# Altium schematic symbol library BQ21080.SchLib: 1 symbol
Pins are listed as number, name and electrical type; pins without a type are passive.

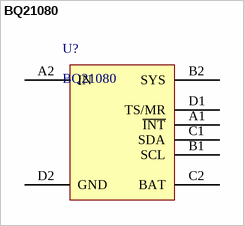
[diagram p0: symbol BQ21080]

## BQ21080
designator U?
footprint BQ21080_bga (BGA, 6-Leads, Body 1.00x1.55mmx0.50mm, Pitch 0.40mm)
pins: A1 ~{INT}, A2 IN, B1 SCL, B2 SYS, C1 SDA, C2 BAT, D1 TS/MR, D2 GND